# Altium integrated library MFP-25BRD52-100K.IntLib: 2 symbols
Pins are listed as number, name and electrical type; pins without a type are passive.

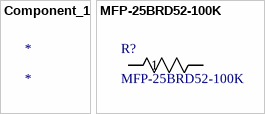
[diagram p0: symbols Component_1 to MFP-25BRD52-100K]

## Component_1
designator *

## MFP-25BRD52-100K
designator R?
No Description Available; Mfr_Name: Yageo; Copyright: Copyright (C) 2022 Ultra Librarian. All rights reserved.; Manufacturer_Part_Number: MFP-25BRD52-100K; Digi-Key_Part_Number_1: 100KADCT-ND; Digi-Key_Part_Number_2: 100KADTR-ND; RefDes: RefDes; Type: DEV
footprint YAG_MF25_YAG
pins: 1, 2